# Altium schematic symbol library RJ54-1-406541-1.SchLib: 1 symbol
Pins are listed as number, name and electrical type; pins without a type are passive.

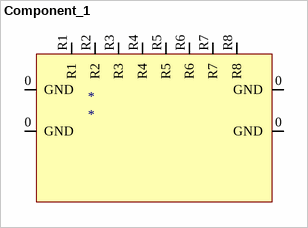
[diagram p0: symbol Component_1]

## Component_1
designator *
pins: 0 GND, 0 GND, 0 GND, 0 GND, R1, R2, R3, R4, R5, R6, R7, R8